# Altium footprint library PcbLib1.PcbLib: 34 footprints (part 2 of 3)
Each footprint in its own frame and in the unit in brackets; x right, y up, seen from the top. Pads: shape width x height; smd on the part's side, far side on the other; paste and mask are expansions set on the pad; w line width, h text height; cw(c..) or ccw(c..) is an arc to the next point about the centre after c.
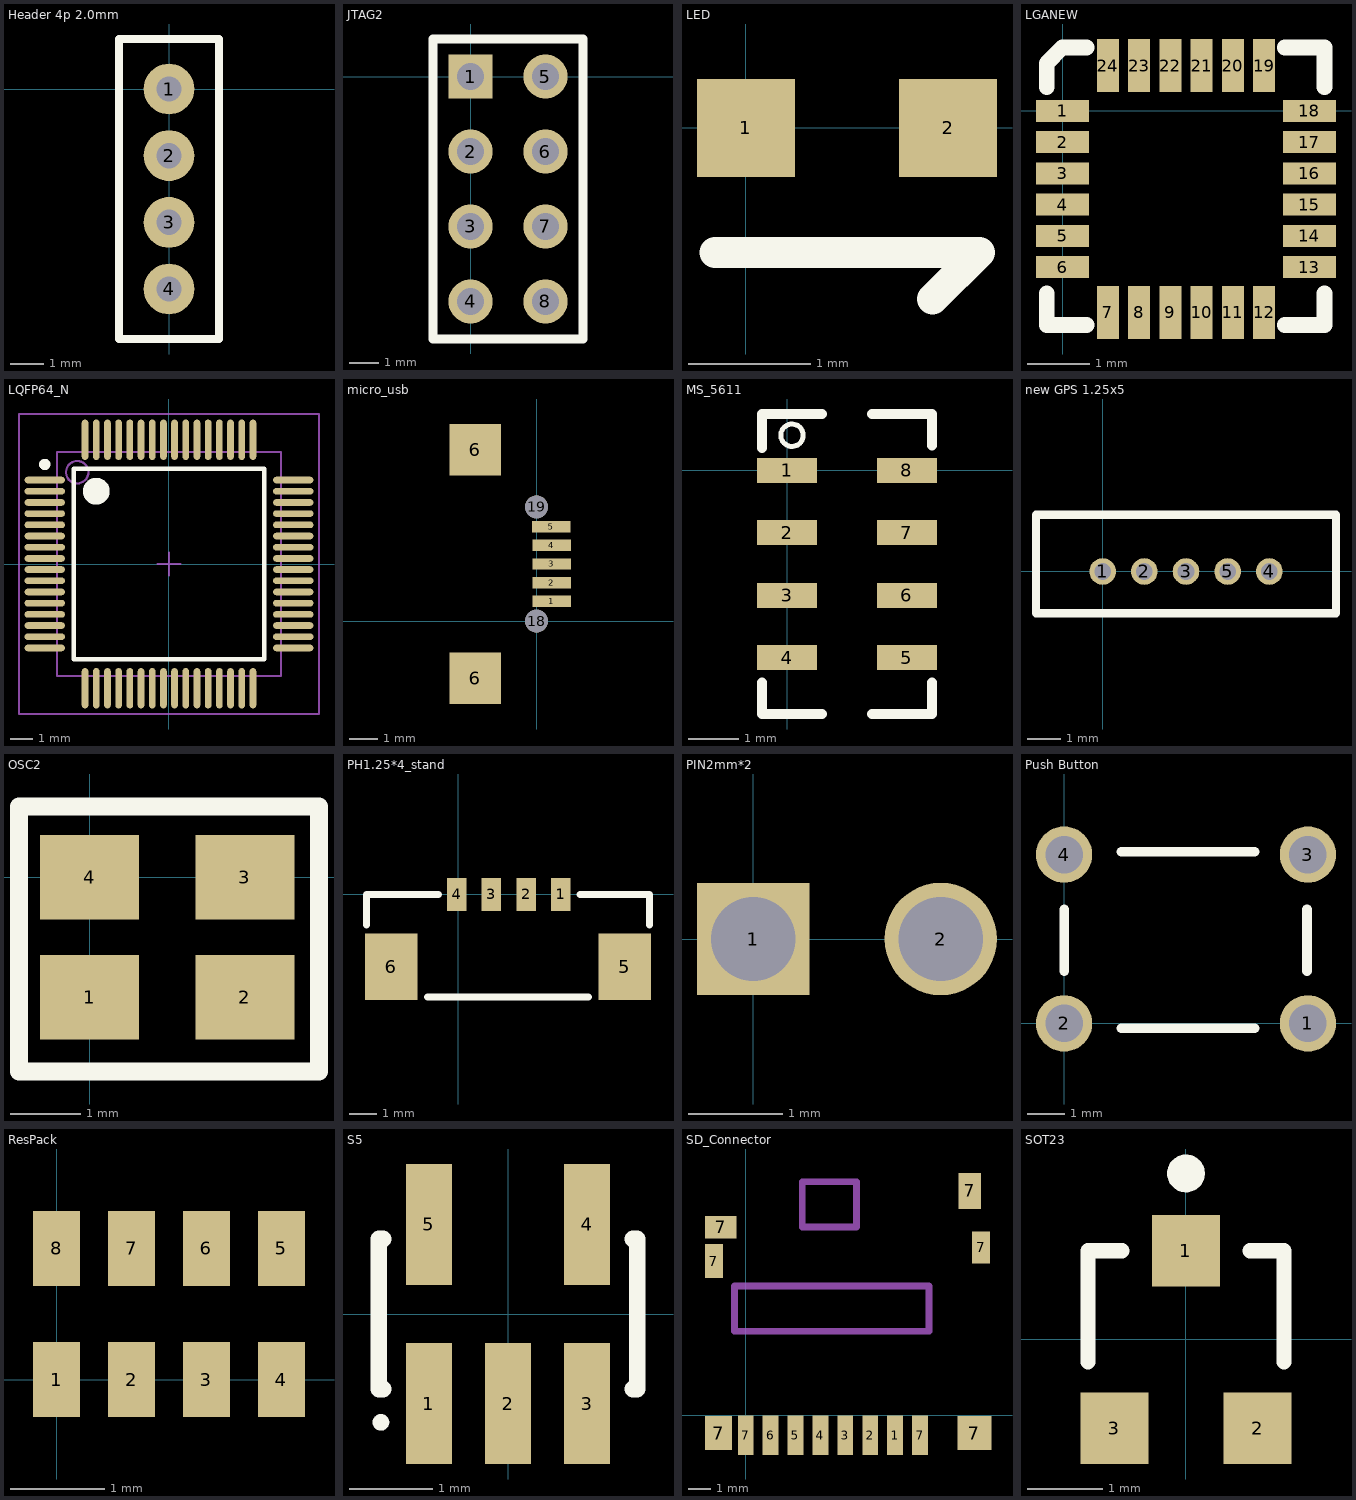
[diagram p1: the footprints below, top view; thin cyan lines are the x and y axes]

## Header 4p 2.0mm [mil]
pads (4):
  round 60 hole 30: 1(0,0) 2(0,-78.74) 3(0,-157.48) 4(0,-236.22)
Top Overlay:
  lines w10: -59.06,-295.28 59.06,-295.28 59.06,59.06 -59.06,59.06 -59.06,39.37 -59.06,-295.28

## JTAG2 [mm]
pads (8):
  rect 1.5x1.5 hole 0.9: 1(0,0)
  round 1.5 hole 0.9: 2(0,-2.54) 3(0,-5.08) 4(0,-7.62) 5(2.54,0) 6(2.54,-2.54) 7(2.54,-5.08) 8(2.54,-7.62)
Top Overlay:
  lines w0.3: -1.27,-8.89 -1.27,1.27 3.81,1.27 3.81,-8.89 -1.27,-8.89

## LED [mm]
pads (2):
  rect 0.8x0.8 smd: 1(0,0) 2(1.65,0)
Top Overlay:
  lines w0.254: -0.254,-1.016 1.905,-1.016 1.524,-1.397

## LGANEW [mm]
pads (24):
  rect 0.85x0.35 smd mask+0: 1(0,0) 2(0,-0.5) 3(0,-1) 4(0,-1.5) 5(0,-2) 6(0,-2.5) 13(3.95,-2.5) 14(3.95,-2) 15(3.95,-1.5) 16(3.95,-1) 17(3.95,-0.5) 18(3.95,0)
  rect 0.35x0.85 smd mask+0: 7(0.725,-3.225) 8(1.225,-3.225) 9(1.725,-3.225) 10(2.225,-3.225) 11(2.725,-3.225) 12(3.225,-3.225) 19(3.225,0.725) 20(2.725,0.725) 21(2.225,0.725) 22(1.725,0.725) 23(1.225,0.725) 24(0.725,0.725)
Top Overlay:
  lines w0.254: -0.254,-2.921 -0.254,-3.429 0.381,-3.429 ; -0.254,0.381 -0.254,0.762 0,1.016 0.381,1.016 ; 3.556,-3.429 4.191,-3.429 4.191,-2.921 ; 3.556,1.016 4.191,1.016 4.191,0.381

## LQFP64_N [mm] "Thin QFP, 64-Leads, Body 10x10mm, Pitch 0.5mm, IPC Medium Density"
height 1.6
pads (64):
  oval 1.8x0.3 smd: 1(-5.55,3.75) 2(-5.55,3.25) 3(-5.55,2.75) 4(-5.55,2.25) 5(-5.55,1.75) 6(-5.55,1.25) 7(-5.55,0.75) 8(-5.55,0.25) 9(-5.55,-0.25) 10(-5.55,-0.75) 11(-5.55,-1.25) 12(-5.55,-1.75) 13(-5.55,-2.25) 14(-5.55,-2.75) 15(-5.55,-3.25) 16(-5.55,-3.75) 33(5.55,-3.75) 34(5.55,-3.25) 35(5.55,-2.75) 36(5.55,-2.25) 37(5.55,-1.75) 38(5.55,-1.25) 39(5.55,-0.75) 40(5.55,-0.25) 41(5.55,0.25) 42(5.55,0.75) 43(5.55,1.25) 44(5.55,1.75) 45(5.55,2.25) 46(5.55,2.75) 47(5.55,3.25) 48(5.55,3.75)
  oval 0.3x1.8 smd: 17(-3.75,-5.55) 18(-3.25,-5.55) 19(-2.75,-5.55) 20(-2.25,-5.55) 21(-1.75,-5.55) 22(-1.25,-5.55) 23(-0.75,-5.55) 24(-0.25,-5.55) 25(0.25,-5.55) 26(0.75,-5.55) 27(1.25,-5.55) 28(1.75,-5.55) 29(2.25,-5.55) 30(2.75,-5.55) 31(3.25,-5.55) 32(3.75,-5.55) 49(3.75,5.55) 50(3.25,5.55) 51(2.75,5.55) 52(2.25,5.55) 53(1.75,5.55) 54(1.25,5.55) 55(0.75,5.55) 56(0.25,5.55) 57(-0.25,5.55) 58(-0.75,5.55) 59(-1.25,5.55) 60(-1.75,5.55) 61(-2.25,5.55) 62(-2.75,5.55) 63(-3.25,5.55) 64(-3.75,5.55)
Top Overlay:
  circle w0.6: c-3.25,3.25 r0.3
  circle w0.25: c-5.55,4.45 r0.125
  lines w0.2: -4.25,-4.25 4.25,-4.25 4.25,4.25 -4.25,4.25 -4.25,-4.25
Mechanical 13:
  circle w0.1: c-4.1,4.1 r0.5
  lines w0.1: -5,-5 5,-5 5,5 -5,5 -5,-5
Mechanical 15:
  lines w0.1: -0.5,0 0.5,0 ; 0,-0.5 0,0.5 ; -6.7,-6.7 6.7,-6.7 6.7,6.7 -6.7,6.7 -6.7,-6.7
3D body: height 1.6, standoff 0, extent -5,-5 5,5

## micro_usb [mm]
pads (9):
  rect 1.35x0.4 smd: 1(0.525,0.7) 2(0.525,1.35) 3(0.525,2) 4(0.525,2.65) 5(0.508,3.302)
  rect 1.8x1.8 smd: 6(-2.15,-2) 6(-2.15,6)
  round 0.8 hole 0.8: 18(0,0) 19(0,4)
Bottom Overlay:
  lines w0.254: -2.75,-3.25 -3.25,-3.25 -3.25,7.25 -2.75,7.25 ; -1.25,-3.25 0.25,-3.25 1.25,-2.25 1.25,0.25 ; -1.25,7.25 0.25,7.25 1.25,6.25 1.25,3.75

## MS_5611 [mm]
pads (8):
  rect 1.2x0.5 smd: 1(0,0) 2(0,-1.25) 3(0,-2.5) 4(0,-3.75) 5(2.4,-3.75) 6(2.4,-2.5) 7(2.4,-1.25) 8(2.4,0)
Top Overlay:
  circle w0.1: c0.1,0.7 r0.224
  lines w0.2: -0.5,-4.25 -0.5,-4.875 0.7,-4.875 ; -0.5,0.45 -0.5,1.125 0.7,1.125 ; 1.7,-4.875 2.9,-4.875 2.9,-4.25 ; 1.7,1.125 2.9,1.125 2.9,0.5

## new GPS 1.25x5 [mm]
pads (5):
  round 0.8 hole 0.5: 1(0,0) 2(1.25,0) 3(2.5,0) 4(5,0) 5(3.75,0)
Top Overlay:
  lines w0.254: -2,-1.25 -2,0 -2,1.7 7,1.7 7,-1 7,-1.25 -2,-1.25

## OSC2 [mm]
pads (4):
  rect 1.4x1.2 smd: 1(0,-1.7) 2(2.2,-1.7) 3(2.2,0) 4(0,0)
Top Overlay:
  lines w0.254: -1,-2.75 3.25,-2.75 3.25,1 -1,1 -1,-2.75

## PH1.25*4_stand [mm]
pads (6):
  rect 0.7x1.18 smd: 1(3.7,0) 2(2.45,0) 3(1.2,0) 4(-0.05,0)
  rect 1.9x2.4 smd: 5(6,-2.6) 6(-2.4,-2.6)
Top Overlay:
  lines w0.254: -3.3,-1.1 -3.3,0 -0.7,0 ; -1.1,-3.7 4.7,-3.7 ; 4.4,0 6.2,0 6.9,0 6.9,-1.1

## PIN2mm*2 [mm]
pads (2):
  rect 1.2x1.2 hole 0.9: 1(0,0)
  round 1.2 hole 0.9: 2(2,0)

## Push Button [mm]
pads (4):
  round 1.5 hole 1: 1(6.5,0) 2(0,0) 3(6.5,4.5) 4(0,4.5)
Top Overlay:
  lines w0.254: 0,1.397 0,3.048 ; 1.524,-0.127 5.08,-0.127 ; 1.524,4.572 5.08,4.572 ; 6.477,1.397 6.477,3.048

## ResPack [mm]
pads (8):
  rect 0.5x0.8 smd: 1(0,0) 2(0.8,0) 3(1.6,0) 4(2.4,0) 5(2.4,1.4) 6(1.6,1.4) 7(0.8,1.4) 8(0,1.4)

## S5 [mm] "SOT-23/SC-74A; 5 Leads; Body 3.1 x 3 mm, inc. leads (LxW max)"
height 1.45
pads (5):
  rect 0.55x1.45 smd: 1(-0.95,-1.075) 2(0,-1.075) 3(0.95,-1.075) 4(0.95,1.075) 5(-0.95,1.075)
Top Overlay:
  circle w0.1: c-1.525,-1.3 r0.05
  lines w0.2: -1.5,-0.9 -1.55,-0.9 -1.55,0.9 -1.5,0.9 ; 1.5,-0.9 1.55,-0.9 1.55,0.9 1.5,0.9

## SD_Connector [mm]
pads (14):
  rect 0.7x1.75 smd: 1(6.6,-0.9) 2(5.5,-0.9) 3(4.4,-0.9) 4(3.3,-0.9) 5(2.2,-0.9) 6(1.1,-0.9) 7(0,-0.9) 7(7.7,-0.9)
  rect 0.8x1.5 smd: 7(-1.4,6.8)
  rect 1.2x1.5 smd: 7(-1.2,-0.8)
  rect 1.4x1 smd: 7(-1.1,8.3)
  rect 1x1.6 smd: 7(9.9,9.9)
  rect 1.5x1.5 smd: 7(10.1,-0.8)
  rect 0.8x1.4 smd: 7(10.4,7.4)
Mechanical 13:
  lines w0.3: -0.5,3.7 8.1,3.7 8.1,5.7 -0.5,5.7 -0.5,3.7 ; 2.5,8.3 4.9,8.3 4.9,8.9 4.9,10.3 2.5,10.3 2.5,8.3

## SOT23 [mm] "SOT-23; 3 Leads; Body 3.1 x 2.5 mm, inc. leads (LxW max), Alternate Lead Configuration"
height 1.1
pads (3):
  rect 0.9x0.95 smd: 1(0,1.175) 2(0.95,-1.175) 3(-0.95,-1.175)
Top Overlay:
  circle w0.25: c0,2.2 r0.125
  lines w0.2: -1.3,-0.3 -1.3,1.175 -0.85,1.175 ; 0.85,1.175 1.3,1.175 1.3,-0.3